# Altium schematic symbol library SCH - MCU - SI LABS - SI LABS EFR32MG21B020F1024IM32 32-PIN QFN 4X4.SchLib: 1 symbol
Pins are listed as number, name and electrical type; pins without a type are passive.

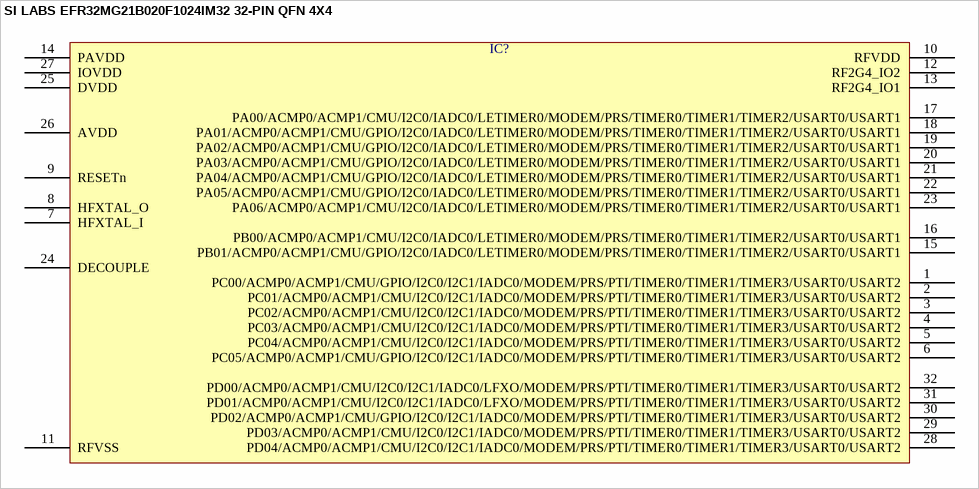
[diagram p0: symbol SI LABS EFR32MG21B020F1024IM32 32-PIN QFN 4X4]

## SI LABS EFR32MG21B020F1024IM32 32-PIN QFN 4X4
designator IC?  (value not drawn)
pins: 1 PC00/ACMP0/ACMP1/CMU/GPIO/I2C0/I2C1/IADC0/MODEM/PRS/PTI/TIMER0/TIMER1/TIMER3/USART0/USART2, 2 PC01/ACMP0/ACMP1/CMU/I2C0/I2C1/IADC0/MODEM/PRS/PTI/TIMER0/TIMER1/TIMER3/USART0/USART2, 3 PC02/ACMP0/ACMP1/CMU/I2C0/I2C1/IADC0/MODEM/PRS/PTI/TIMER0/TIMER1/TIMER3/USART0/USART2, 4 PC03/ACMP0/ACMP1/CMU/I2C0/I2C1/IADC0/MODEM/PRS/PTI/TIMER0/TIMER1/TIMER3/USART0/USART2, 5 PC04/ACMP0/ACMP1/CMU/I2C0/I2C1/IADC0/MODEM/PRS/PTI/TIMER0/TIMER1/TIMER3/USART0/USART2, 6 PC05/ACMP0/ACMP1/CMU/GPIO/I2C0/I2C1/IADC0/MODEM/PRS/PTI/TIMER0/TIMER1/TIMER3/USART0/USART2, 7 HFXTAL_I, 8 HFXTAL_O, 9 RESETn, 10 RFVDD, 11 RFVSS, 12 RF2G4_IO2, 13 RF2G4_IO1, 14 PAVDD, 15 PB01/ACMP0/ACMP1/CMU/GPIO/I2C0/IADC0/LETIMER0/MODEM/PRS/TIMER0/TIMER1/TIMER2/USART0/USART1, 16 PB00/ACMP0/ACMP1/CMU/I2C0/IADC0/LETIMER0/MODEM/PRS/TIMER0/TIMER1/TIMER2/USART0/USART1, 17 PA00/ACMP0/ACMP1/CMU/I2C0/IADC0/LETIMER0/MODEM/PRS/TIMER0/TIMER1/TIMER2/USART0/USART1, 18 PA01/ACMP0/ACMP1/CMU/GPIO/I2C0/IADC0/LETIMER0/MODEM/PRS/TIMER0/TIMER1/TIMER2/USART0/USART1, 19 PA02/ACMP0/ACMP1/CMU/GPIO/I2C0/IADC0/LETIMER0/MODEM/PRS/TIMER0/TIMER1/TIMER2/USART0/USART1, 20 PA03/ACMP0/ACMP1/CMU/GPIO/I2C0/IADC0/LETIMER0/MODEM/PRS/TIMER0/TIMER1/TIMER2/USART0/USART1, 21 PA04/ACMP0/ACMP1/CMU/GPIO/I2C0/IADC0/LETIMER0/MODEM/PRS/TIMER0/TIMER1/TIMER2/USART0/USART1, 22 PA05/ACMP0/ACMP1/CMU/GPIO/I2C0/IADC0/LETIMER0/MODEM/PRS/TIMER0/TIMER1/TIMER2/USART0/USART1, 23 PA06/ACMP0/ACMP1/CMU/I2C0/IADC0/LETIMER0/MODEM/PRS/TIMER0/TIMER1/TIMER2/USART0/USART1, 24 DECOUPLE, 25 DVDD, 26 AVDD, 27 IOVDD, 28 PD04/ACMP0/ACMP1/CMU/I2C0/I2C1/IADC0/MODEM/PRS/PTI/TIMER0/TIMER1/TIMER3/USART0/USART2, 29 PD03/ACMP0/ACMP1/CMU/I2C0/I2C1/IADC0/MODEM/PRS/PTI/TIMER0/TIMER1/TIMER3/USART0/USART2, 30 PD02/ACMP0/ACMP1/CMU/GPIO/I2C0/I2C1/IADC0/MODEM/PRS/PTI/TIMER0/TIMER1/TIMER3/USART0/USART2, 31 PD01/ACMP0/ACMP1/CMU/I2C0/I2C1/IADC0/LFXO/MODEM/PRS/PTI/TIMER0/TIMER1/TIMER3/USART0/USART2, 32 PD00/ACMP0/ACMP1/CMU/I2C0/I2C1/IADC0/LFXO/MODEM/PRS/PTI/TIMER0/TIMER1/TIMER3/USART0/USART2